# Altium footprint library naveedk_footprints.pcblib: 30 footprints (part 2 of 2)
Each footprint in its own frame and in the unit in brackets; x right, y up, seen from the top. Pads: shape width x height; smd on the part's side, far side on the other; paste and mask are expansions set on the pad; w line width, h text height; cw(c..) or ccw(c..) is an arc to the next point about the centre after c.
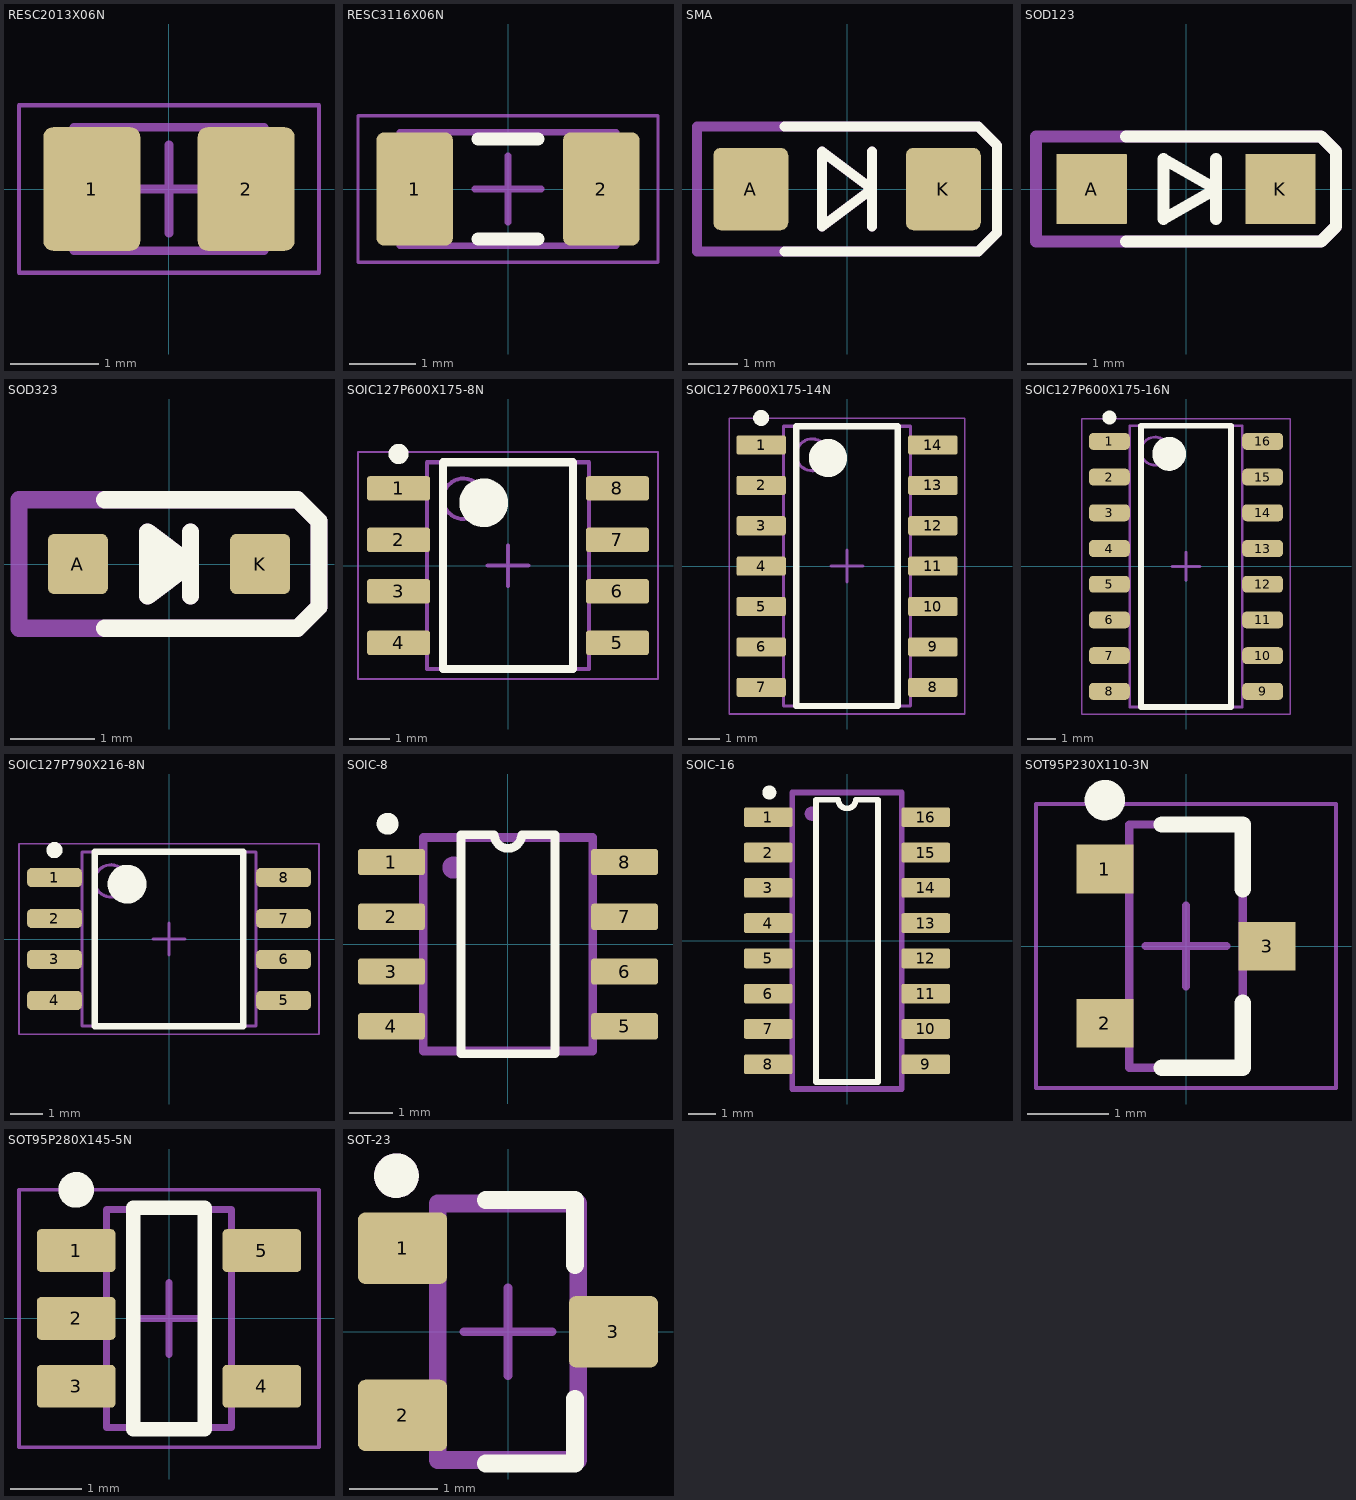
[diagram p1: the footprints below, top view; thin cyan lines are the x and y axes]

## RESC2013X06N [mm] "Chip Resistor, 2-Leads, Body 2.00x1.27mm, IPC Medium Density"
height 0.65
pads (2):
  rrect20% 1.1x1.4 smd: 1(-0.875,0) 2(0.875,0)
Mechanical 13:
  lines w0.1: -1.075,-0.7 1.075,-0.7 1.075,0.7 -1.075,0.7 -1.075,-0.7
Mechanical 15:
  lines w0.05: -1.7,-0.95 1.7,-0.95 1.7,0.95 -1.7,0.95 -1.7,-0.95
  lines w0.1: -0.5,0 0.5,0 ; 0,-0.5 0,0.5
3D body "RESC2013X06N.step": height 0.65, standoff 0, extent -1.075,-0.7 1.075,0.7

## RESC3116X06N [mm] "Chip Resistor, 2-Leads, Body 3.10x1.58mm, IPC Medium Density"
height 0.65
pads (2):
  rrect20% 1.15x1.7 smd: 1(-1.4,0) 2(1.4,0)
Top Overlay:
  lines w0.2: -0.45,-0.75 0.45,-0.75 ; -0.45,0.75 0.45,0.75
Mechanical 13:
  lines w0.1: -1.625,-0.85 -1.625,0.85 1.625,0.85 1.625,-0.85 -1.625,-0.85
Mechanical 15:
  lines w0.05: -2.25,-1.1 -2.25,1.1 2.25,1.1 2.25,-1.1 -2.25,-1.1
  lines w0.1: -0.5,0 0.5,0 ; 0,-0.5 0,0.5
3D body "RESC3116X06N.step": height 0.65, standoff 0, extent -1.625,-0.85 1.625,0.85

## SMA [mil]
pads (2):
  rrect20% 60x66 smd: A(-77,0) K(77,0)
Top Overlay:
  lines w8: -50,-50 105,-50 120,-35 120,35 105,50 -50,50 ; 20,-30 20,30 ; -20,-30 -20,30 20,0 -20,-30
Top Assembly:
  lines w8: 20,-30 20,30 ; -120,-50 -120,50 100,50 105,50 120,35 120,-35 105,-50 -120,-50 ; -20,-30 -20,30 20,0 -20,-30
  text "'.Designator'" at -283.24,-20.83 h50

## SOD123 [mil]
pads (2):
  rrect2% 47x47 smd mask+3: A(-63,0) K(63,0)
Top Overlay:
  lines w8: -40,-35 90,-35 100,-25 100,25 90,35 -40,35 ; 20,-20 20,20 ; -15,-20 -15,20 20,0 -15,-20
Top Assembly:
  lines w8: -100,-35 -100,35 90,35 100,25 100,-25 90,-35 -100,-35
  text "'.Designator'" at -283.24,-20.83 h50

## SOD323 [mil]
pads (2):
  rrect20% 28x28 smd mask+3: A(-42.5,0) K(42.5,0)
Top Overlay:
  region: -10,15 -10,-15 10,0
  lines w8: -30,-30 60,-30 70,-20 70,20 60,30 -30,30 ; 10,-15 10,15 ; -10,-15 -10,15 10,0 -10,-15
Top Assembly:
  region: -10,15 -10,-15 10,0
  lines w8: 10,-15 10,15 ; -70,-30 60,-30 70,-20 70,20 60,30 -70,30 -70,-30 ; -10,-15 -10,15 10,0 -10,-15
  text "'.Designator'" at -283.24,-20.83 h50

## SOIC127P600X175-8N [mm] "SOIC, 8-Leads, Body 4.93x3.90mm, Pitch 1.27mm, IPC Medium Density"
height 1.75
pads (8):
  rrect20% 1.55x0.6 smd: 1(-2.7,1.905) 2(-2.7,0.635) 3(-2.7,-0.635) 4(-2.7,-1.905) 5(2.7,-1.905) 6(2.7,-0.635) 7(2.7,0.635) 8(2.7,1.905)
Top Overlay:
  circle w0.6: c-0.6,1.55 r0.3
  circle w0.25: c-2.7,2.755 r0.125
  lines w0.2: -1.6,-2.55 1.6,-2.55 1.6,2.55 -1.6,2.55 -1.6,-2.55
Mechanical 13:
  circle w0.1: c-1.1,1.65 r0.5
  lines w0.1: -2,-2.55 2,-2.55 2,2.55 -2,2.55 -2,-2.55
Mechanical 15:
  lines w0.05: -3.7,-2.8 3.7,-2.8 3.7,2.8 -3.7,2.8 -3.7,-2.8
  lines w0.1: -0.5,0 0.5,0 ; 0,-0.5 0,0.5
3D body "SOIC127P600X175-8N.step": height 1.75, standoff 0, extent -2.997,-2.55 2.997,2.55

## SOIC127P600X175-14N [mm] "SOIC, 14-Leads, Body 8.65x3.90mm, Pitch 1.27mm, IPC Medium Density"
height 1.75
pads (14):
  rrect20% 1.55x0.6 smd: 1(-2.7,3.81) 2(-2.7,2.54) 3(-2.7,1.27) 4(-2.7,0) 5(-2.7,-1.27) 6(-2.7,-2.54) 7(-2.7,-3.81) 8(2.7,-3.81) 9(2.7,-2.54) 10(2.7,-1.27) 11(2.7,0) 12(2.7,1.27) 13(2.7,2.54) 14(2.7,3.81)
Top Overlay:
  circle w0.6: c-0.6,3.4 r0.3
  circle w0.25: c-2.7,4.66 r0.125
  lines w0.2: -1.6,-4.4 1.6,-4.4 1.6,4.4 -1.6,4.4 -1.6,-4.4
Mechanical 13:
  circle w0.1: c-1.1,3.5 r0.5
  lines w0.1: -2,-4.4 2,-4.4 2,4.4 -2,4.4 -2,-4.4
Mechanical 15:
  lines w0.05: -3.7,-4.65 3.7,-4.65 3.7,4.65 -3.7,4.65 -3.7,-4.65
  lines w0.1: -0.5,0 0.5,0 ; 0,-0.5 0,0.5
3D body "SOIC127P600X175-14N.step": height 1.75, standoff 0, extent -3,-4.4 3,4.4

## SOIC127P600X175-16N [mm] "SOIC, 16-Leads, Body 9.90x3.90mm, Pitch 1.27mm, IPC Medium Density"
height 1.75
pads (16):
  rrect50% 1.45x0.6 smd: 1(-2.725,4.445) 2(-2.725,3.175) 3(-2.725,1.905) 4(-2.725,0.635) 5(-2.725,-0.635) 6(-2.725,-1.905) 7(-2.725,-3.175) 8(-2.725,-4.445) 9(2.725,-4.445) 10(2.725,-3.175) 11(2.725,-1.905) 12(2.725,-0.635) 13(2.725,0.635) 14(2.725,1.905) 15(2.725,3.175) 16(2.725,4.445)
Top Overlay:
  circle w0.25: c-2.725,5.295 r0.125
  circle w0.6: c-0.6,4 r0.3
  lines w0.2: -1.6,-5 -1.6,5 1.6,5 1.6,-5 -1.6,-5
Mechanical 13:
  circle w0.1: c-1.1,4.1 r0.5
  lines w0.1: -2,-5 -2,5 2,5 2,-5 -2,-5
Mechanical 15:
  lines w0.05: -3.7,-5.25 -3.7,5.25 3.7,5.25 3.7,-5.25 -3.7,-5.25
  lines w0.1: -0.5,0 0.5,0 ; 0,-0.5 0,0.5
3D body "SOIC127P600X175-16N.step": height 1.75, standoff 0, extent -3,-5 3,5

## SOIC127P790X216-8N [mm] "SOIC, 8-Leads, Body 5.28x5.28mm, Pitch 1.27mm, IPC Medium Density"
height 2.16
pads (8):
  rrect50% 1.7x0.6 smd: 1(-3.55,1.905) 2(-3.55,0.635) 3(-3.55,-0.635) 4(-3.55,-1.905) 5(3.55,-1.905) 6(3.55,-0.635) 7(3.55,0.635) 8(3.55,1.905)
Top Overlay:
  circle w0.6: c-1.3,1.7 r0.3
  circle w0.25: c-3.55,2.755 r0.125
  lines w0.2: -2.3,-2.7 2.3,-2.7 2.3,2.7 -2.3,2.7 -2.3,-2.7
Mechanical 13:
  circle w0.1: c-1.8,1.8 r0.5
  lines w0.1: -2.7,-2.7 2.7,-2.7 2.7,2.7 -2.7,2.7 -2.7,-2.7
Mechanical 15:
  lines w0.05: -4.65,-2.95 4.65,-2.95 4.65,2.95 -4.65,2.95 -4.65,-2.95
  lines w0.1: -0.5,0 0.5,0 ; 0,-0.5 0,0.5
3D body "SOIC127P790X216-8N.step": height 2.16, standoff 0, extent -3.95,-2.7 3.95,2.7

## SOIC-8 [mil]
pads (8):
  rrect20% 61x24 smd mask+3: 1(-106.5,75) 2(-106.5,25) 3(-106.5,-25) 4(-106.5,-75) 5(106.5,-75) 6(106.5,-25) 7(106.5,25) 8(106.5,75)
Top Overlay:
  circle w10: c-110,110 r5
  lines w8: -43,-100 -43,100 -12.5,100 ccw(c0,100) 12.5,100 43,100 43,-100 -43,-100
Top Assembly:
  circle w10: c-50,70 r5
  lines w8: -77.5,-97.5 77.5,-97.5 77.5,97.5 -77.5,97.5 -77.5,-97.5
  text "'.Designator'" at -283.24,-20.83 h50
3D body "SO-8.stp": height 64, standoff 0, extent -118.56,-96.5 118.56,96.5

## SOIC-16 [mil]
pads (16):
  rrect20% 69x28 smd mask+3: 1(-111.5,175) 2(-111.5,125) 3(-111.5,75) 4(-111.5,25) 5(-111.5,-25) 6(-111.5,-75) 7(-111.5,-125) 8(-111.5,-175) 9(111.5,-175) 10(111.5,-125) 11(111.5,-75) 12(111.5,-25) 13(111.5,25) 14(111.5,75) 15(111.5,125) 16(111.5,175)
Top Overlay:
  circle w10: c-110,210 r5
  lines w8: -44,-200 -44,200 -12.5,200 ccw(c0,200) 12.5,200 44,200 44,-200 -44,-200
Top Assembly:
  circle w10: c-50,180 r5
  lines w8: -77.5,-210 77.5,-210 77.5,210 -77.5,210 -77.5,-210
  text "'.Designator'" at -283.24,21.66 h50
3D body "SOIC-16.step": height 69.09, standoff 0, extent -122.01,-197.01 122.01,197.01

## SOT95P230X110-3N [mm] "SOT23, 3-Leads, Body 2.90x2.30mm, Pitch 0.95mm, IPC Medium Density"
height 1.1
pads (3):
  rect 0.7x0.6 smd: 1(-1,0.95) 2(-1,-0.95) 3(1,0)
Top Overlay:
  circle w0.25: c-1,1.8 r0.125
  lines w0.2: -0.3,-1.5 0.7,-1.5 0.7,-0.7 ; -0.3,1.5 0.7,1.5 0.7,0.7
Top Assembly:
  lines w0.1: -0.7,-1.5 0.7,-1.5 0.7,1.5 -0.7,1.5 -0.7,-1.5
Mechanical 15:
  lines w0.05: -1.85,-1.75 1.85,-1.75 1.85,1.75 -1.85,1.75 -1.85,-1.75
  lines w0.1: -0.5,0 0.5,0 ; 0,-0.5 0,0.5
3D body "SOT95P230X110-3N.step": height 1.1, standoff 0, extent -1.3,-1.5 1.3,1.5

## SOT95P280X145-5N [mm] "SOT23, 5-Leads, Body 2.90x2.80mm, Pitch 0.95mm, IPC Medium Density"
height 1.45
pads (5):
  rrect20% 1.1x0.6 smd: 1(-1.3,0.95) 2(-1.3,0) 3(-1.3,-0.95) 4(1.3,-0.95) 5(1.3,0.95)
Top Overlay:
  circle w0.25: c-1.3,1.8 r0.125
  lines w0.2: -0.5,-1.55 -0.5,1.55 0.5,1.55 0.5,-1.55 -0.5,-1.55
Mechanical 13:
  lines w0.1: -0.875,-1.525 0.875,-1.525 0.875,1.525 -0.875,1.525 -0.875,-1.525
Mechanical 15:
  lines w0.05: -2.1,-1.8 2.1,-1.8 2.1,1.8 -2.1,1.8 -2.1,-1.8
  lines w0.1: -0.5,0 0.5,0 ; 0,-0.5 0,0.5
3D body "SOT95P280X145-5N.step": height 1.45, standoff 0, extent -1.5,-1.525 1.5,1.525

## SOT-23 [mil] "SOT23, 3-Leads, Body 2.90x2.30mm, Pitch 0.95mm, IPC Medium Density"
height 44
pads (3):
  rrect20% 40x32 smd mask+3: 1(-47.25,37.5) 2(-47.25,-37.5) 3(47.25,0)
Top Overlay:
  circle w10: c-50,70 r5
  lines w8: -10,-59.06 30,-59.06 30,-30 ; -10,59.06 30,59.06 30,30
Top Assembly:
  circle w10: c-50,70 r5
  lines w8: -31.5,-57.5 31.5,-57.5 31.5,57.5 -31.5,57.5 -31.5,-57.5
Mechanical 15:
  lines w3.94: -19.69,0 19.68,0 ; 0,-19.68 0,19.69
3D body "SOT95P230X110-3N.step": height 43.31, standoff 0, extent -51.18,-59.06 51.18,59.06